# EAGLE library part ENCODER (library mbed-microcontroller)
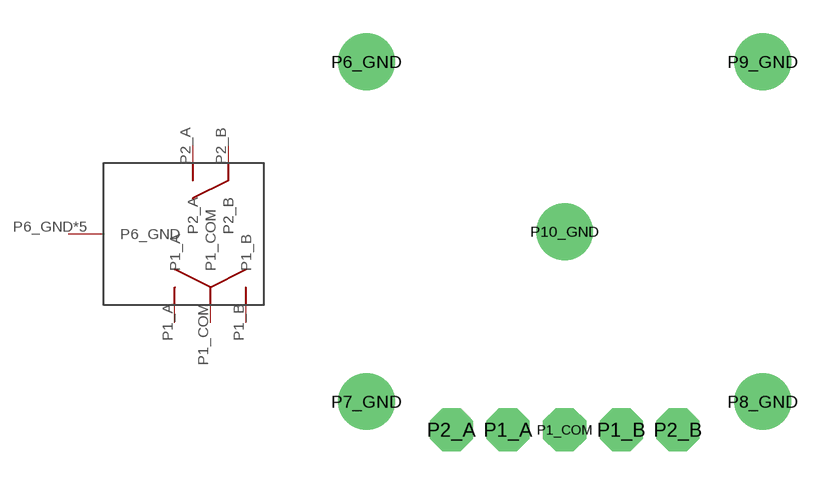
[diagram p4: symbol with the pads of ENCODER; footprint ENCODER]

Designator prefix -

## ENCODER  [ENCODER]
P1_A  P1_A
P1_B  P1_B
P1_COM  P1_COM
P2_A  P2_A
P2_B  P2_B
P6_GND  P6_GND
P7_GND  P6_GND
P8_GND  P6_GND
P9_GND  P6_GND
P10_GND  P6_GND

## Footprint ENCODER (pad centres in mm)
drill 1.1 pad 1.93 octagon: P1_A -2.54,-2.54; P1_B 2.54,-2.54; P1_COM 0,-2.54; P2_A -5.08,-2.54; P2_B 5.08,-2.54
drill 1.6 pad 2.54: P6_GND -8.89,13.97; P7_GND -8.89,-1.27; P8_GND 8.89,-1.27; P9_GND 8.89,13.97
drill 1.5 pad 2.54: P10_GND 0,6.35